# Altium footprint library PulseGenFPLib.PcbLib: 39 footprints (part 3 of 3)
Each footprint in its own frame and in the unit in brackets; x right, y up, seen from the top. Pads: shape width x height; smd on the part's side, far side on the other; paste and mask are expansions set on the pad; w line width, h text height; cw(c..) or ccw(c..) is an arc to the next point about the centre after c.
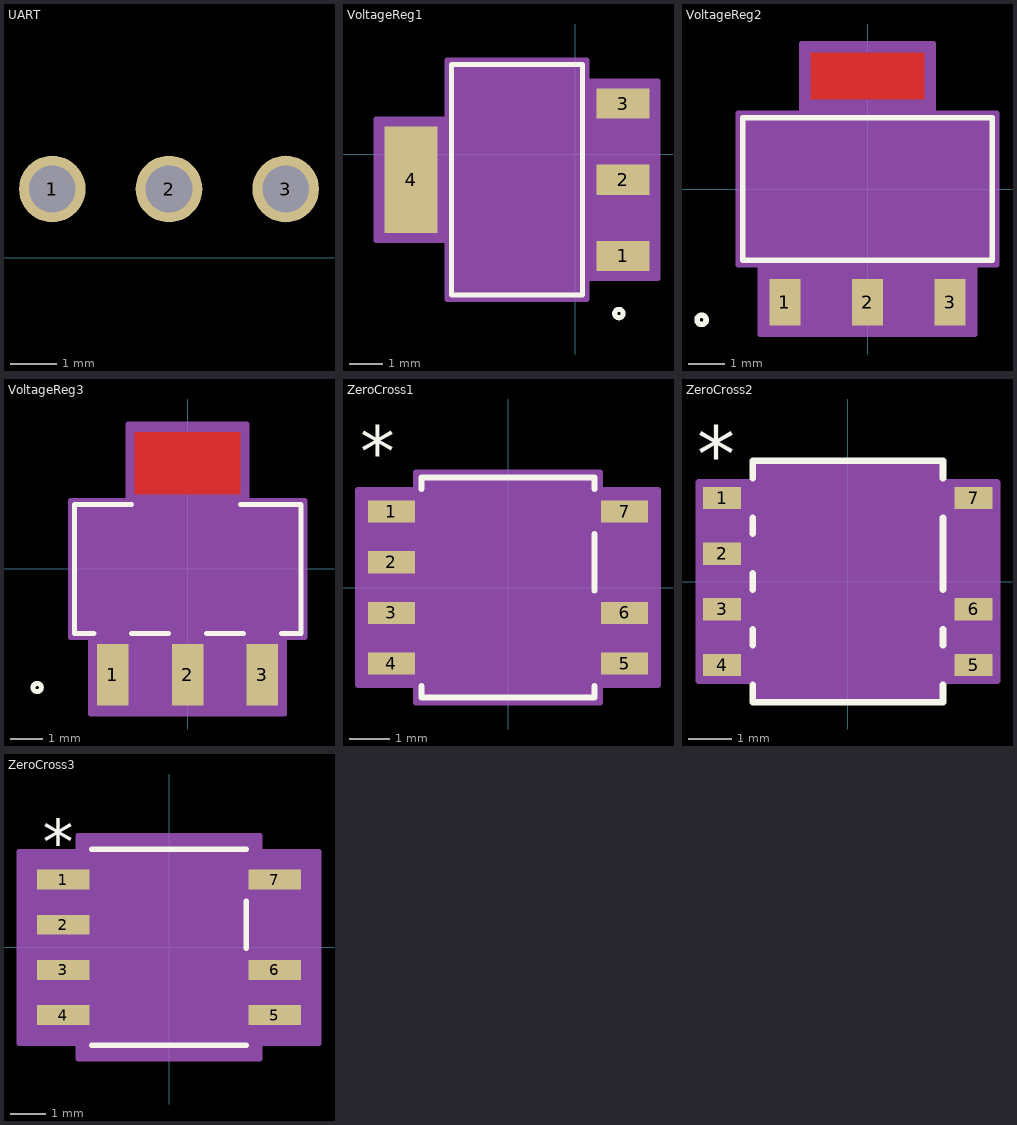
[diagram p2: the footprints below, top view; thin cyan lines are the x and y axes]

## UART [mil]
pads (3):
  round 57 hole 40.16 paste-99999 mask+0: 1(111,59) 2(211,59) 3(311,59)

## VoltageReg1 [mil]
pads (4):
  rect 63x36 smd paste+0 mask+0: 1(57,-120.55) 2(57,-30) 3(57,60.55)
  rect 63x126 smd paste+0 mask+0: 4(-195,-30)
Top Overlay:
  circle w6: c52,-189 r5
  lines w6: -147,-167 9,-167 9,107 -147,107 -147,-167
Top Paste:
  region: -163.5,33 -226.5,33 -226.5,-93 -163.5,-93
Top Solder:
  region: -149.5,34 -240.5,34 -240.5,-94 -149.5,-94
Mechanical 13:
  circle w0: c-6,-152 r5
  lines w1: -212.5,-92 -142,-92 -142,32 -212.5,32 -212.5,-92 ; -142,-162 4,-162 4,102 -142,102 -142,-162 ; 4,-137.55 74.5,-137.55 74.5,-103.55 4,-103.55 4,-137.55 ; 4,-47 74.5,-47 74.5,-13 4,-13 4,-47 ; 4,43.55 74.5,43.55 74.5,77.55 4,77.55 4,43.55
Mechanical 15:
  region: 14,-172 -152,-172 -152,-102 -236.5,-102 -236.5,42 -152,42 -152,112 14,112 14,87.55 98.5,87.55 98.5,-147.55 14,-147.55
  lines w6: -236.5,-102 -236.5,42 -152,42 -152,112 14,112 14,87.55 98.5,87.55 98.5,-147.55 14,-147.55 14,-172 -152,-172 -152,-102 -236.5,-102
3D body "SOT-223_STM.step": height 71.1, standoff 0, extent -212.5,-162.01 74.5,102.01

## VoltageReg2 [mil]
pads (3):
  rect 34x51 smd paste+0 mask+0: 1(-90.55,-124) 2(0,-124) 3(90.55,-124)
Top Layer:
  region: 62,98.5 62,149.5 -62,149.5 -62,98.5
Top Overlay:
  circle w6: c-182,-143.5 r5
  lines w6: -137,-78 -137,78 137,78 137,-78 -137,-78
Top Paste:
  region: 62,98.5 62,149.5 -62,149.5 -62,98.5
Top Solder:
  region: 62,88.5 62,155.5 -62,155.5 -62,88.5
Mechanical 13:
  circle w0: c-122,-63 r5
  lines w1: -132,-73 -132,73 132,73 132,-73 -132,-73 ; -107.55,-143.5 -73.55,-143.5 -73.55,-73 -107.55,-73 -107.55,-143.5 ; -62,73 -62,143.5 62,143.5 62,73 -62,73 ; -17,-143.5 17,-143.5 17,-73 -17,-73 -17,-143.5 ; 73.55,-143.5 107.55,-143.5 107.55,-73 73.55,-73 73.55,-143.5
Mechanical 15:
  region: -142,-83 -142,83 -72,83 -72,159.5 72,159.5 72,83 142,83 142,-83 117.55,-83 117.55,-159.5 -117.55,-159.5 -117.55,-83
  lines w6: -142,-83 -117.55,-83 -117.55,-159.5 117.55,-159.5 117.55,-83 142,-83 142,83 72,83 72,159.5 -72,159.5 -72,83 -142,83 -142,-83
3D body "SOT-223_STM.step": height 71.1, standoff 0, extent -132.01,-143.5 132.01,143.5

## VoltageReg3 [mil]
pads (3):
  rect 38x75 smd paste+0 mask+0: 1(-90.55,-128) 2(0,-128) 3(90.55,-128)
Top Layer:
  region: 64,90.5 64,165.5 -64,165.5 -64,90.5
Top Overlay:
  circle w6: c-182,-143.5 r5
  lines w6: -113.47,-78 -137,-78 -137,78 -67.92,78 ; -67.63,-78 -22.92,-78 ; 22.92,-78 67.63,-78 ; 64,78 137,78 137,-78 113.47,-78
Top Paste:
  region: 64,90.5 64,165.5 -64,165.5 -64,90.5
Top Solder:
  region: 66,72.5 66,187.5 -66,187.5 -66,72.5
Mechanical 13:
  circle w0: c-122,-63 r5
  lines w1: -132,-73 132,-73 132,73 -132,73 -132,-73 ; -107.55,-143.5 -107.55,-73 -73.55,-73 -73.55,-143.5 -107.55,-143.5 ; -62,73 62,73 62,143.5 -62,143.5 -62,73 ; -17,-143.5 -17,-73 17,-73 17,-143.5 -17,-143.5 ; 73.55,-143.5 73.55,-73 107.55,-73 107.55,-143.5 73.55,-143.5
Mechanical 15:
  region: -142,-83 -142,83 -72,83 -72,175.5 72,175.5 72,83 142,83 142,-83 117.55,-83 117.55,-175.5 -117.55,-175.5 -117.55,-83
  lines w6: -142,-83 -142,83 -72,83 -72,175.5 72,175.5 72,83 142,83 142,-83 117.55,-83 117.55,-175.5 -117.55,-175.5 -117.55,-83 -142,-83
3D body "SOT-223_STM.step": height 71.1, standoff 0, extent -132.01,-143.5 132.01,143.5

## ZeroCross1 [mil]
pads (7):
  rect 46x22 smd paste+0 mask+0: 1(-115,75) 2(-115,25) 3(-115,-25) 4(-115,-75) 5(115,-75) 6(115,-25) 7(115,75)
Top Overlay:
  lines w6: -85.5,-97.37 -85.5,-108.5 85.5,-108.5 85.5,-97.37 ; -85.5,97.37 -85.5,108.5 85.5,108.5 85.5,97.37 ; 85.5,-2.63 85.5,52.63
  text "*" at -146,110 h50
Mechanical 13:
  lines w0: -12,103.5 ccw(c0,103.5) 12,103.5
  lines w1: -124,-85 -124,-65 -80.5,-65 -80.5,-85 -124,-85 ; -124,-35 -124,-15 -80.5,-15 -80.5,-35 -124,-35 ; -124,15 -124,35 -80.5,35 -80.5,15 -124,15 ; -124,65 -124,85 -80.5,85 -80.5,65 -124,65 ; -80.5,-103.5 80.5,-103.5 80.5,103.5 -80.5,103.5 -80.5,-103.5 ; 80.5,-85 80.5,-65 124,-65 124,-85 80.5,-85 ; 80.5,-35 80.5,-15 124,-15 124,-35 80.5,-35 ; 80.5,65 80.5,85 124,85 124,65 80.5,65
  text "*" at -78,50.5 h50
Mechanical 15:
  region: -90.5,-96 -148,-96 -148,96 -90.5,96 -90.5,113.5 90.5,113.5 90.5,96 148,96 148,-96 90.5,-96 90.5,-113.5 -90.5,-113.5
  lines w6: -148,-96 -148,96 -90.5,96 -90.5,113.5 90.5,113.5 90.5,96 148,96 148,-96 90.5,-96 90.5,-113.5 -90.5,-113.5 -90.5,-96 -148,-96
3D body "SOP-J7S_ROM.step": height 65.12, standoff 0, extent -124.02,-103.5 124.02,103.5

## ZeroCross2 [mil]
pads (7):
  rect 34x20 smd paste+0 mask+0: 1(-113,75) 2(-113,25) 3(-113,-25) 4(-113,-75) 5(113,-75) 6(113,-25) 7(113,75)
Top Overlay:
  lines w6: -85.5,-92.83 -85.5,-108.5 85.5,-108.5 85.5,-92.83 ; -85.5,-57.17 -85.5,-42.83 ; -85.5,-7.17 -85.5,7.17 ; -85.5,42.83 -85.5,57.17 ; -85.5,92.83 -85.5,108.5 85.5,108.5 85.5,92.83 ; 85.5,-57.17 85.5,-42.83 ; 85.5,-7.17 85.5,57.17
  text "*" at -135.5,90 h50
Mechanical 13:
  lines w0: -12,103.5 ccw(c0,103.5) 12,103.5
  lines w1: -124,-85 -124,-65 -80.5,-65 -80.5,-85 -124,-85 ; -124,-35 -124,-15 -80.5,-15 -80.5,-35 -124,-35 ; -124,15 -124,35 -80.5,35 -80.5,15 -124,15 ; -124,65 -124,85 -80.5,85 -80.5,65 -124,65 ; -80.5,-103.5 80.5,-103.5 80.5,103.5 -80.5,103.5 -80.5,-103.5 ; 80.5,-85 80.5,-65 124,-65 124,-85 80.5,-85 ; 80.5,-35 80.5,-15 124,-15 124,-35 80.5,-35 ; 80.5,65 80.5,85 124,85 124,65 80.5,65
  text "*" at -78,50.5 h50
Mechanical 15:
  region: -84.5,-89 -134,-89 -134,89 -84.5,89 -84.5,107.5 84.5,107.5 84.5,89 134,89 134,-89 84.5,-89 84.5,-107.5 -84.5,-107.5
  lines w6: -134,-89 -134,89 -84.5,89 -84.5,107.5 84.5,107.5 84.5,89 134,89 134,-89 84.5,-89 84.5,-107.5 -84.5,-107.5 -84.5,-89 -134,-89
3D body "SOP-J7S_ROM.step": height 65.12, standoff 0, extent -124.02,-103.5 124.02,103.5

## ZeroCross3 [mil]
pads (7):
  rect 58x22 smd paste+0 mask+0: 1(-117,75) 2(-117,25) 3(-117,-25) 4(-117,-75) 5(117,-75) 6(117,-25) 7(117,75)
Top Overlay:
  lines w6: -85.5,-108.5 85.5,-108.5 ; -85.5,108.5 85.5,108.5 ; 85.5,-1.14 85.5,51.14
  text "*" at -139.5,92 h50
Mechanical 13:
  lines w0: -12,103.5 ccw(c0,103.5) 12,103.5
  lines w1: -124,-85 -124,-65 -80.5,-65 -80.5,-85 -124,-85 ; -124,-35 -124,-15 -80.5,-15 -80.5,-35 -124,-35 ; -124,15 -124,35 -80.5,35 -80.5,15 -124,15 ; -124,65 -124,85 -80.5,85 -80.5,65 -124,65 ; -80.5,-103.5 80.5,-103.5 80.5,103.5 -80.5,103.5 -80.5,-103.5 ; 80.5,-85 80.5,-65 124,-65 124,-85 80.5,-85 ; 80.5,-35 80.5,-15 124,-15 124,-35 80.5,-35 ; 80.5,65 80.5,85 124,85 124,65 80.5,65
  text "*" at -78,50.5 h50
Mechanical 15:
  region: -100.5,-106 -166,-106 -166,106 -100.5,106 -100.5,123.5 100.5,123.5 100.5,106 166,106 166,-106 100.5,-106 100.5,-123.5 -100.5,-123.5
  lines w6: -166,-106 -166,106 -100.5,106 -100.5,123.5 100.5,123.5 100.5,106 166,106 166,-106 100.5,-106 100.5,-123.5 -100.5,-123.5 -100.5,-106 -166,-106
3D body "SOP-J7S_ROM.step": height 65.12, standoff 0, extent -124.02,-103.5 124.02,103.5